# Altium schematic symbol library MICROLOCK_PLUS_5PIN.SchLib: 1 symbol
Pins are listed as number, name and electrical type; pins without a type are passive.

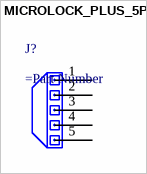
[diagram p0: symbol MICROLOCK_PLUS_5PIN]

## MICROLOCK_PLUS_5PIN
designator J?
=Description
pins: 1, 2, 3, 4, 5